# Altium footprint library TO127P1435X464-8N.PcbLib: 1 footprints
Each footprint in its own frame and in the unit in brackets; x right, y up, seen from the top. Pads: shape width x height; smd on the part's side, far side on the other; paste and mask are expansions set on the pad; w line width, h text height; cw(c..) or ccw(c..) is an arc to the next point about the centre after c.
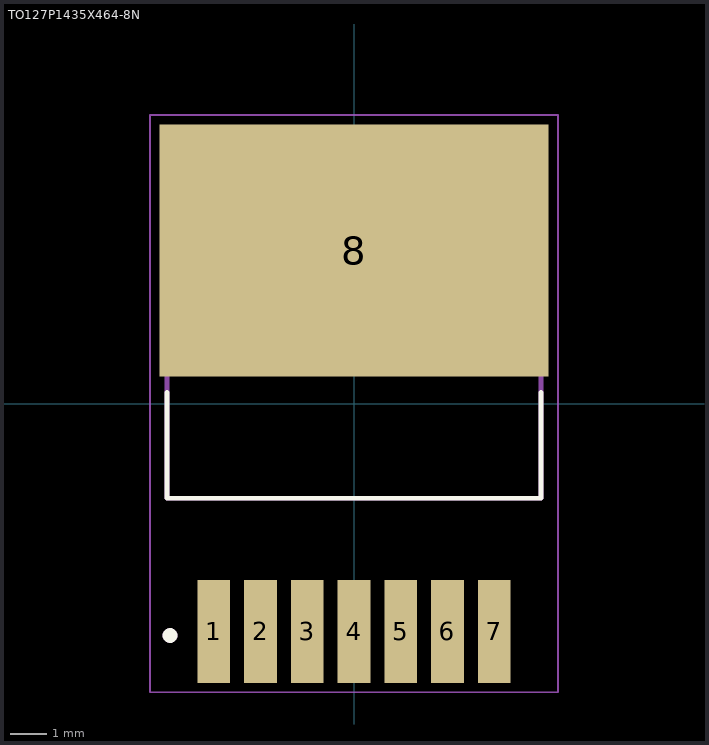
[diagram p0: the footprint, top view; thin cyan lines are the x and y axes]

## TO127P1435X464-8N [mm]
pads (8):
  rect 0.89x2.79 smd: 1(-3.81,-6.19) 2(-2.54,-6.19) 3(-1.27,-6.19) 4(0,-6.19) 5(1.27,-6.19) 6(2.54,-6.19) 7(3.81,-6.19)
  rect 10.58x6.84 smd paste-6: 8(0,4.16)
Top Overlay:
  circle w0.2: c-5,-6.3 r0.1
  lines w0.127: -5.08,0.3 -5.08,-2.575 5.08,-2.575 5.08,0.3
Top Paste:
  region: -0.25,4.915 -1.51,4.915 -1.51,6.825 -0.25,6.825
  region: -0.25,1.495 -1.51,1.495 -1.51,3.405 -0.25,3.405
  region: 1.51,4.915 0.25,4.915 0.25,6.825 1.51,6.825
  region: 1.51,1.495 0.25,1.495 0.25,3.405 1.51,3.405
  region: -2.01,4.915 -3.27,4.915 -3.27,6.825 -2.01,6.825
  region: -3.77,4.915 -5.03,4.915 -5.03,6.825 -3.77,6.825
  region: -2.01,1.495 -3.27,1.495 -3.27,3.405 -2.01,3.405
  region: -3.77,1.495 -5.03,1.495 -5.03,3.405 -3.77,3.405
  region: 3.27,1.495 2.01,1.495 2.01,3.405 3.27,3.405
  region: 3.27,4.915 2.01,4.915 2.01,6.825 3.27,6.825
  region: 5.03,4.915 3.77,4.915 3.77,6.825 5.03,6.825
  region: 5.03,1.495 3.77,1.495 3.77,3.405 5.03,3.405
Mechanical 13:
  circle w0.2: c-5,-6.3 r0.1
  lines w0.127: -5.08,-2.575 5.08,-2.575 5.08,6.065 -5.08,6.065 -5.08,-2.575
Mechanical 15:
  lines w0.05: -5.54,-7.84 5.54,-7.84 5.54,7.84 -5.54,7.84 -5.54,-7.84
3D body "step_temp.STEP": height 4.65, standoff -0.3, extent -5.048,-7.62 5.048,7.62